# Altium footprint library PCBFootprint_SMD.PcbLib: 197 footprints (part 1 of 13)
Each footprint in its own frame and in the unit in brackets; x right, y up, seen from the top. Pads: shape width x height; smd on the part's side, far side on the other; paste and mask are expansions set on the pad; w line width, h text height; cw(c..) or ccw(c..) is an arc to the next point about the centre after c.
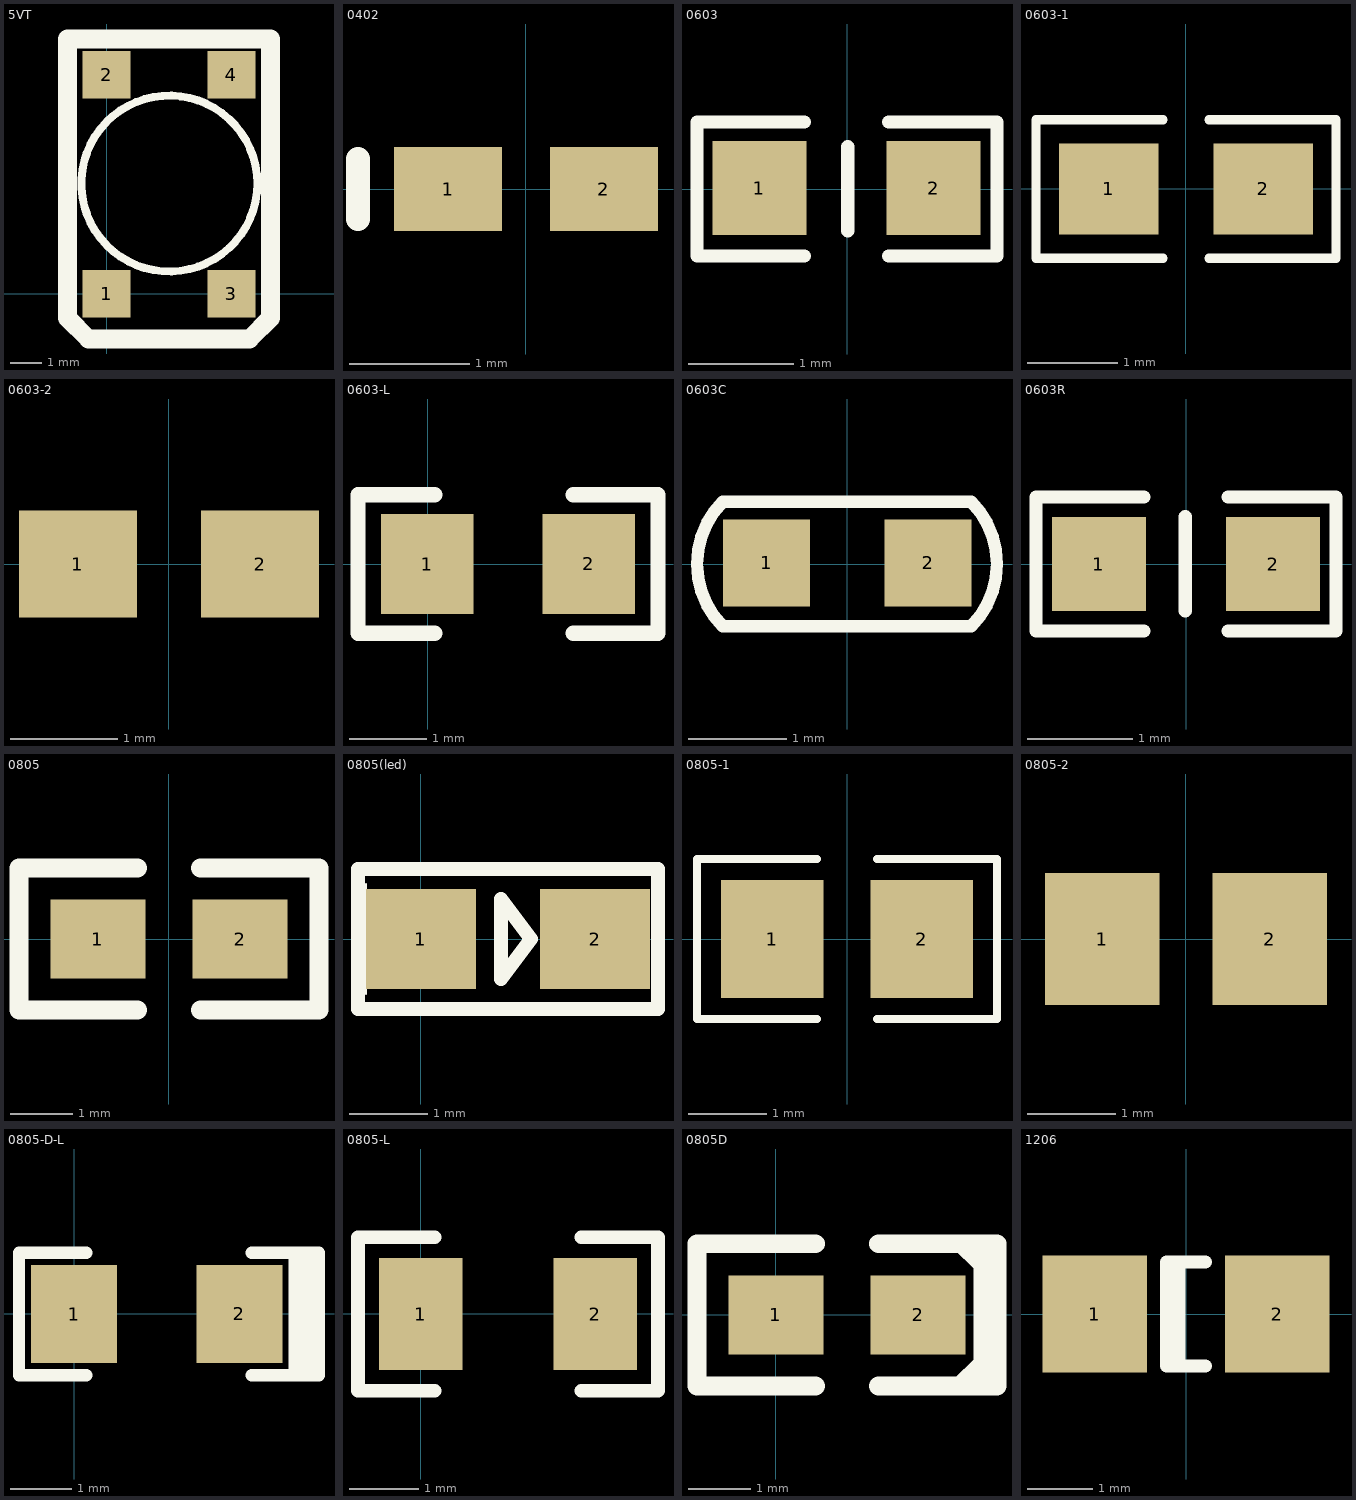
[diagram p0: the footprints below, top view; thin cyan lines are the x and y axes]

## 5VT [mil]
pads (4):
  rect 60x60 smd: 1(0,0) 2(0,275.59) 3(157.48,0) 4(157.48,275.59)
Top Overlay:
  circle w10: c79.12,138.78 r110.84
  lines w23.62: -49.21,-30.51 -49.21,320.87 206.69,320.87 206.69,-30.51 180.12,-57.09 -22.64,-57.09 -49.21,-30.51

## 0402 [mm] "Chip Capacitor; Body 1.0 x 0.5 mm (LxW typ)"
height 0.55
pads (2):
  rect 0.9x0.7 smd: 1(-0.65,0) 2(0.65,0)
Top Overlay:
  lines w0.2: -1.4,-0.25 -1.4,0.25

## 0603 [mil]
pads (2):
  rect 35x35 smd: 1(-32.67,0.34) 2(32.33,0.34)
Top Overlay:
  lines w5: -15.92,-25 -56,-25 -56,25 -15.92,25 ; 0.33,-15.66 0.33,15.84 ; 15.57,-25 56,-25 56,25 15.57,25

## 0603-1 [mm] "贴片带丝印"
height 0.6
pads (2):
  rect 1.1x1 smd: 1(-0.85,0) 2(0.85,0)
Top Overlay:
  lines w0.1: -0.254,-0.762 -1.651,-0.762 -1.651,0.762 -0.254,0.762 ; 0.254,-0.762 1.651,-0.762 1.651,0.762 0.254,0.762
3D body: height 1, standoff 0, extent -1.143,-0.381 1.143,0.381

## 0603-2 [mm] "贴片无丝印"
height 0.6
pads (2):
  rect 1.1x1 smd: 1(-0.85,0) 2(0.85,0)

## 0603-L [mm]
pads (2):
  rect 1.2x1.3 smd: 1(-0.006,0.002) 2(2.094,0.002)
Top Overlay:
  lines w0.2: 0.094,-0.898 -0.906,-0.898 -0.906,0.902 0.094,0.902 ; 1.894,-0.898 2.994,-0.898 2.994,0.902 1.894,0.902

## 0603C [mil]
pads (2):
  rect 35x35 smd: 1(-32.39,0.47) 2(32.61,0.47)
Top Overlay:
  lines w5: -50,-25 cw(c-25,0) -50,25 50,25 cw(c25,0) 50,-25 -50,-25

## 0603R [mil]
pads (2):
  rect 35x35 smd: 1(-32.5,0) 2(32.5,0)
Top Overlay:
  lines w5: -15.75,-25 -56,-25 -56,25 -15.76,25 ; -0.26,-17.43 -0.26,17.67 ; 15.74,-25 56,-25 56,25 15.74,25

## 0805 [mil]
pads (2):
  rect 60x50 smd: 1(-45,0) 2(45,0)
Top Overlay:
  lines w12: -20,-45 -95,-45 -95,45 -20,45 ; 20,-45 95,-45 95,45 20,45

## 0805(led) [mm]
pads (2):
  rect 1.4x1.27 smd: 1(0,0) 2(2.21,0)
Top Overlay:
  lines w0.025: -0.7,-0.7 -0.7,0.7
  lines w0.178: -0.8,-0.889 3.01,-0.889 3.01,0.889 -0.8,0.889 -0.8,-0.889 ; 1.016,-0.508 1.016,0.508 1.397,0 1.016,-0.508

## 0805-1 [mm] "贴片带丝印"
height 1.1
pads (2):
  rect 1.3x1.5 smd: 1(-0.95,0) 2(0.95,0)
Top Overlay:
  lines w0.1: -0.381,-1.016 -1.905,-1.016 -1.905,1.016 -0.381,1.016 ; 0.381,-1.016 1.905,-1.016 1.905,1.016 0.381,1.016
3D body: height 1, standoff 0, extent -1.016,-0.508 1.016,0.508
3D body: height 1, standoff 0, extent 1.016,-0.508 1.143,0.508
3D body: height 1, standoff 0, extent -1.143,-0.508 -1.016,0.508

## 0805-2 [mm] "贴片无丝印"
height 1
pads (2):
  rect 1.3x1.5 smd: 1(-0.95,0) 2(0.95,0)

## 0805-D-L [mm]
pads (2):
  rect 1.4x1.6 smd: 1(-0.006,-0.001) 2(2.694,-0.001)
Top Overlay:
  lines w0.2: 0.194,-1.001 -0.906,-1.001 -0.906,0.999 0.194,0.999 ; 2.894,-1.001 3.994,-1.001 3.994,0.999 2.894,0.999 ; 3.594,-1.001 3.594,0.999 ; 3.694,-1.001 3.694,0.999 ; 3.894,-1.001 3.894,0.999

## 0805-L [mm]
pads (2):
  rect 1.2x1.6 smd: 1(0.003,-0.001) 2(2.503,-0.001)
Top Overlay:
  lines w0.2: 0.203,-1.101 -0.897,-1.101 -0.897,1.099 0.203,1.099 ; 2.303,-1.101 3.403,-1.101 3.403,1.099 2.303,1.099

## 0805D [mil]
pads (2):
  rect 60x50 smd: 1(0,0) 2(90,0)
Top Overlay:
  lines w10: 115.51,-45 130,-30.51 ; 115.51,45.98 130,31.5 ; 130,-45 130,45
  lines w12: 25,-45 -50,-45 -50,45 25,45 ; 65,-45 140,-45 140,45 65,45

## 1206 [mm] "Chip Capacitor; Body 3.2 x 1.6 mm (LxW typ)"
height 1.5
pads (2):
  rect 1.6x1.8 smd: 1(-1.4,0) 2(1.4,0)
Top Overlay:
  lines w0.2: -0.11,-0.8 -0.11,0.8 ; 0.3,-0.8 -0.3,-0.8 -0.3,0.8 0.3,0.8